# Altium schematic symbol library Esquematico de componentes.SchLib: 6 symbols
Pins are listed as number, name and electrical type; pins without a type are passive.

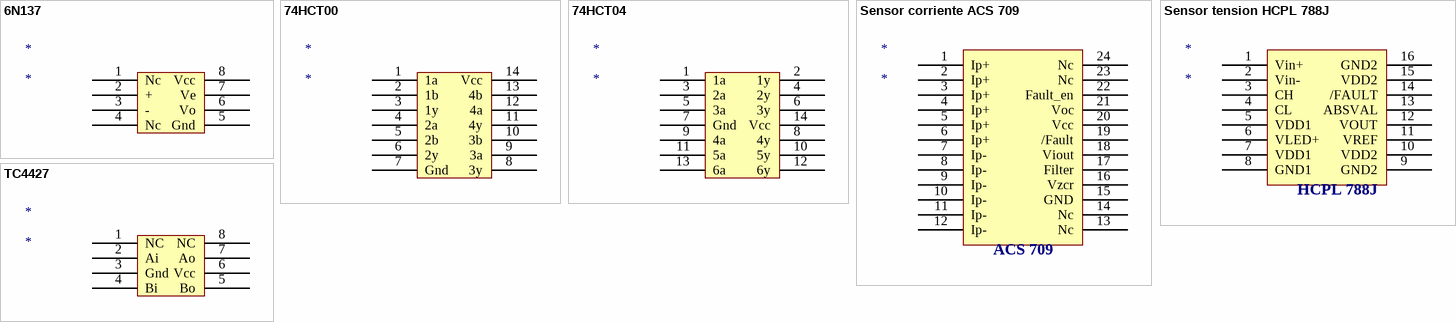
[diagram p0: symbols 6N137 to TC4427]

## 6N137
designator *
footprint 6n137
pins: 1 Nc, 2 +, 3 -, 4 Nc, 5 Gnd, 6 Vo, 7 Ve, 8 Vcc

## 74HCT00
designator *
footprint 74HCT00
pins: 1 1a, 2 1b, 3 1y, 4 2a, 5 2b, 6 2y, 7 Gnd, 8 3y, 9 3a, 10 3b, 11 4y, 12 4a, 13 4b, 14 Vcc

## 74HCT04
designator *
footprint 74HCT00
pins: 1 1a, 2 1y, 3 2a, 4 2y, 5 3a, 6 3y, 7 Gnd, 8 4y, 9 4a, 10 5y, 11 5a, 12 6y, 13 6a, 14 Vcc

## Sensor corriente ACS 709
designator *
footprint Sensor Corriente ACS 709
pins: 1 Ip+, 2 Ip+, 3 Ip+, 4 Ip+, 5 Ip+, 6 Ip+, 7 Ip-, 8 Ip-, 9 Ip-, 10 Ip-, 11 Ip-, 12 Ip-, 13 Nc, 14 Nc, 15 GND, 16 Vzcr, 17 Filter, 18 Viout, 19 /Fault, 20 Vcc, 21 Voc, 22 Fault_en, 23 Nc, 24 Nc
text: ACS 709

## Sensor tension HCPL 788J
designator *
footprint Sens Tension HCPL-788J
pins: 1 Vin+, 2 Vin-, 3 CH, 4 CL, 5 VDD1, 6 VLED+, 7 VDD1, 8 GND1, 9 GND2, 10 VDD2, 11 VREF, 12 VOUT, 13 ABSVAL, 14 /FAULT, 15 VDD2, 16 GND2
text: HCPL 788J

## TC4427
designator *
footprint TC4424-DIP8
pins: 1 NC, 2 Ai, 3 Gnd, 4 Bi, 5 Bo, 6 Vcc, 7 Ao, 8 NC